# Altium schematic symbol library AutonomousVehicle_Lib.SchLib: 17 symbols
Pins are listed as number, name and electrical type; pins without a type are passive.

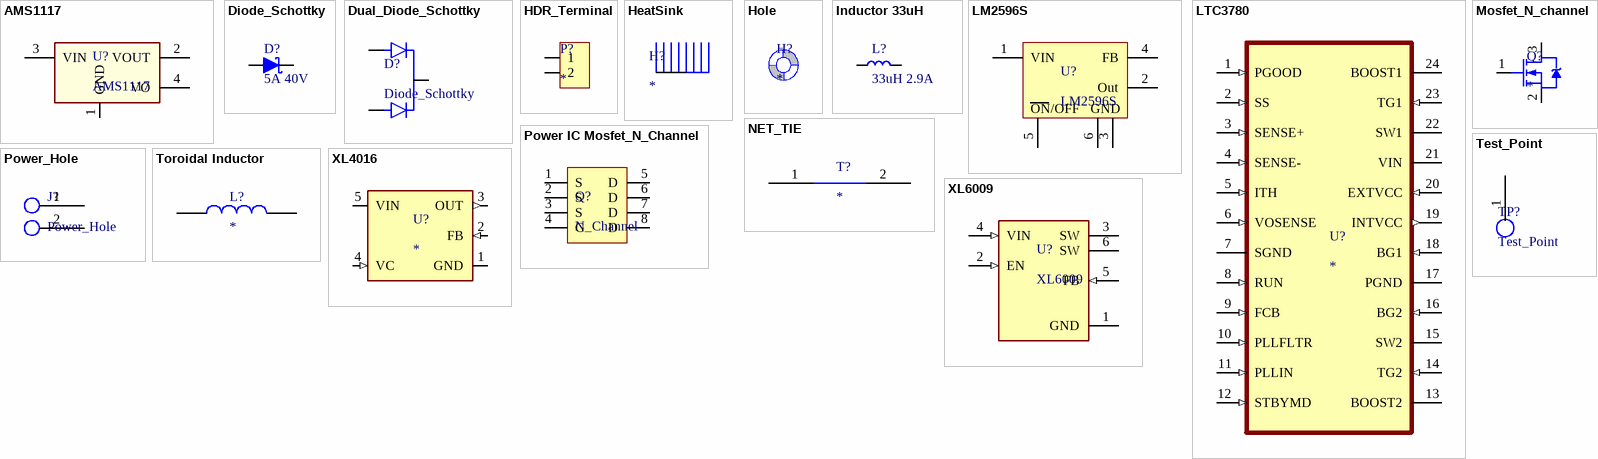
[diagram p0: symbols AMS1117 to XL6009]

## AMS1117
designator U?
IC Linear Drop Out 3.3V 1A SOT-223
footprint AMS1117
pins: 1 GND, 2 VOUT, 3 VIN (power), 4 VO

## Diode_Schottky
designator D?, comment 5A 40V
SS54 SMC Diode Schottky 5A 40V
footprint DO-214AB, SMC
footprint DO-214AB, SMA
pins: 1 A, 2 K

## Dual_Diode_Schottky
designator D?, comment Diode_Schottky
MBR20100CT Diode Schottky 100V 10A TO-220
footprint TO-220AB
pins: 1 A1, 2 C, 3 A2

## HDR_Terminal
designator P?
HDR_Terminal 2 pin; Supplier: ThegioiIC; ComponentLink1Description: URL; ComponentLink1URL: https://www.thegioiic.com/kf128-2-v-domino-2-chan-thang-3-5mm-300v-10a-han-pcb
footprint HDR_Terminal_3.5mm
pins: 1, 2

## HeatSink
designator H?
Heat Sink
footprint HeatSink TO-220
pins: 1 S, 2 S

## Hole
designator H?
Hole
footprint Hole_3.2mm
pins: 1 Screw

## Inductor 33uH
designator L?, comment 33uH 2.9A
Inductor SMD 1038-330 33uH 2.9A; Supplier1: ThegioiIC; ComponentLink1Description: URL1; ComponentLink1URL: https://www.thegioiic.com/cdrh127-cuon-cam-dan-smd-1280-330-33uh-4-2a
footprint CDRH127
pins: 1, 2

## LM2596S
designator U?
IC Switching Buck LM2596S-5.0.  TO-263-5; Supplier1: ThegioiIC; URL1: https://www.thegioiic.com/lm2596s-5-0-ic-dieu-chinh-giam-ap-5v-3a-to-263-5
footprint LM2596S
pins: 1 VIN, 2 Out, 3 GND, 4 FB, 5 ~{ON}/OFF, 6 PAD
text: ON/OFF

## LTC3780
designator U?
LTC3780 -  Buck-boost switching regulator controller
footprint LTC3780
pins: 1 PGOOD (in), 2 SS (in), 3 SENSE+ (in), 4 SENSE- (in), 5 ITH (in), 6 VOSENSE (in), 7 SGND, 8 RUN (in), 9 FCB (in), 10 PLLFLTR (in), 11 PLLIN (in), 12 STBYMD (in), 13 BOOST2 (power), 14 TG2 (in), 15 SW2, 16 BG2 (in), 17 PGND, 18 BG1 (in), 19 INTVCC (out), 20 EXTVCC (in), 21 VIN (power), 22 SW1, 23 TG1 (in), 24 BOOST1 (power)

## Mosfet_N_channel
designator Q?
Mosfet_N_Channel
footprint MOSFET_N_SOT23-3
footprint MOSFET_N_PowerPAKSO-8
pins: 1 G, 2 S, 3 D

## NET_TIE
designator T?
Straight Net Tie
footprint NET_TIE_2.0mm
pins: 1, 2

## Power IC Mosfet_N_Channel
designator Q?, comment N_Channel
N-Channel 40 V 58A (Tc) 4.6W (Ta), 46W (Tc) Surface Mount PowerPAK® SO-8
footprint MOSFET_N_PowerPAKSO-8
pins: 1 S, 2 S, 3 S, 4 G, 5 D, 6 D, 7 D, 8 D

## Power_Hole
designator J?
footprint Power_Hole_2mm_THT
pins: 1 0, 2 1

## Test_Point
designator TP?
footprint TP_1_5mm_SMD
pins: 1

## Toroidal Inductor
designator L?
Dipole Toroidal Inductor, 47uH, 8A
footprint Toroidal Inductor
pins: 1, 2

## XL4016
designator U?
IC Switching Buck 8A TO-220-5
footprint XL4016_TO-220-5
pins: 1 GND (power), 2 FB (in), 3 OUT (out), 4 VC (in), 5 VIN (power)

## XL6009
designator U?
XL6009. IC Switching Boost 5A. TO-263-5; Supplier1: ThegioiIC; ComponentLink1Description: URL1; ComponentLink1URL: https://www.thegioiic.com/xl6009-ic-dieu-chinh-tang-ap-5a-to-263-5
footprint IC_XL6009
pins: 1 GND (power), 2 EN (in), 3 SW, 4 VIN (in), 5 FB (in), 6 SW